# EAGLE library part 691323300008 (library Wurth_Terminal_Blocks_Connectors_rev15d)
WR-TBL Serie 3233 - 3.81mm Vertical PCB Header with Flanges , 8 pins=>Code : Con_TBL_Pluggable_3.81_PCB_THT_Simple_691323300008 <http://katalog.we-online.de/media/images/eican/Con_TBL_Pluggable_3.81_PCB_THT_Simple_6913233000xx_pf2.jpg> Details see: http://katalog.we-online.de/en/em/691_323_300_0xx Created 2014-06-19, Karrer Zheng 2014 (C) Würth Elektronik
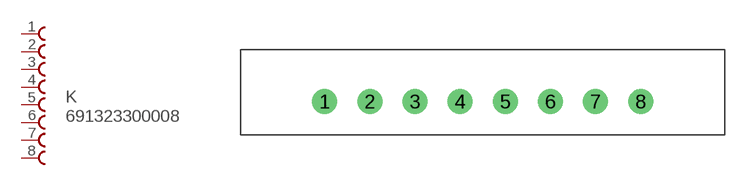
[diagram p37: symbol with the pads of 691323300008; footprint 691323300008]

Designator prefix K

## 691323300008  [691323300008]
1  1  pas
2  2  pas
3  3  pas
4  4  pas
5  5  pas
6  6  pas
7  7  pas
8  8  pas

## Footprint 691323300008 (pad centres in mm)
WR-TBL Serie 3233 - 3.81mm Vertical PCB Header with Flanges , 8 pins
drill 1.4: 1 -15.24,0; 2 -11.43,0; 3 -7.62,0; 4 -3.81,0; 5 0,0; 6 3.81,0; 7 7.62,0; 8 11.43,0